# EAGLE library part TS5A23166 (library NewSDR)
TI 0.9-OHM DUAL SPST ANALOG SWITCH 5-V/3.3-V 2-CHANNEL ANALOG SWITCH
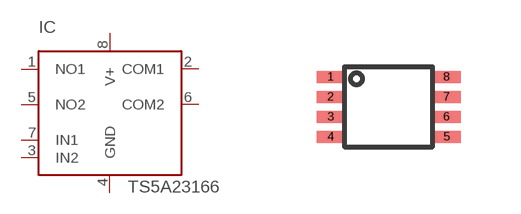
[diagram p94: symbol with the pads of US8-8; footprint US8-8]

Designator prefix IC

## TS5A23166  [US8-8]
1  NO1
2  COM1
3  IN2  in
4  GND  pwr
5  NO2
6  COM2
7  IN1  in
8  V+  pwr

## Footprint US8-8 (pad centres in mm)
8-Lead US8 Package
smd 0.7 x 0.3: 1 -1.45,0.75; 2 -1.45,0.25; 3 -1.45,-0.25; 4 -1.45,-0.75; 5 1.45,-0.75; 6 1.45,-0.25; 7 1.45,0.25; 8 1.45,0.75